# Altium schematic symbol library TPS60403.Schlib: 1 symbol
Pins are listed as number, name and electrical type; pins without a type are passive.

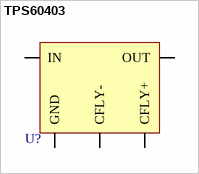
[diagram p0: symbol TPS60403]

## TPS60403
designator U?  (value not drawn)
pins: 1 OUT, 2 IN, 3 CFLY-, 4 GND, 5 CFLY+
1 alternate drawing of the same symbol